# Altium footprint library AMPHENOL_54602-908LF.PcbLib: 1 footprints
Each footprint in its own frame and in the unit in brackets; x right, y up, seen from the top. Pads: shape width x height; smd on the part's side, far side on the other; paste and mask are expansions set on the pad; w line width, h text height; cw(c..) or ccw(c..) is an arc to the next point about the centre after c.
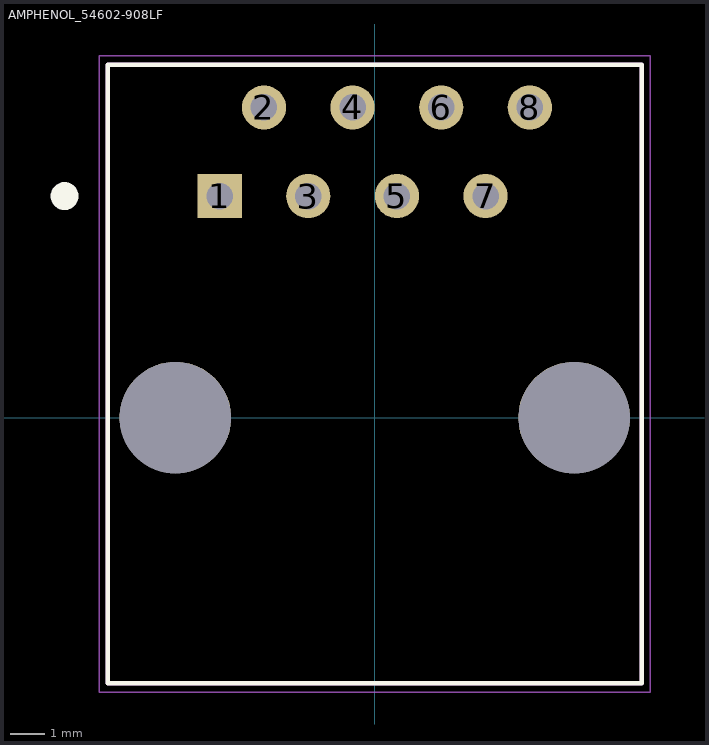
[diagram p0: the footprint, top view; thin cyan lines are the x and y axes]

## AMPHENOL_54602-908LF [mm]
pads (10):
  rect 1.268x1.268 / inner round 1.268 / far side rect 1.268x1.268 hole 0.76: 1(-4.445,6.35)
  round 1.268 hole 0.76: 2(-3.175,8.89) 3(-1.905,6.35) 4(-0.635,8.89) 5(0.635,6.35) 6(1.905,8.89) 7(3.175,6.35) 8(4.445,8.89)
  round 3.2 hole 3.2 unplated: ""(-5.715,0) ""(5.715,0)
Top Overlay:
  circle w0.4: c-8.89,6.35 r0.2
  lines w0.127: -7.65,-7.62 7.65,-7.62 7.65,10.12 -7.65,10.12 -7.65,-7.62
Mechanical 13:
  lines w0.127: -7.65,-7.62 7.65,-7.62 7.65,10.12 -7.65,10.12 -7.65,-7.62
Mechanical 15:
  lines w0.05: -7.9,-7.87 7.9,-7.87 7.9,10.37 -7.9,10.37 -7.9,-7.87
3D body "step_temp.STEP": height 12.65, standoff -3.55, extent -7.62,-7.62 7.68,10.12